# Altium integrated library con-yamaichi.IntLib: 56 symbols
Pins are listed as number, name and electrical type; pins without a type are passive.

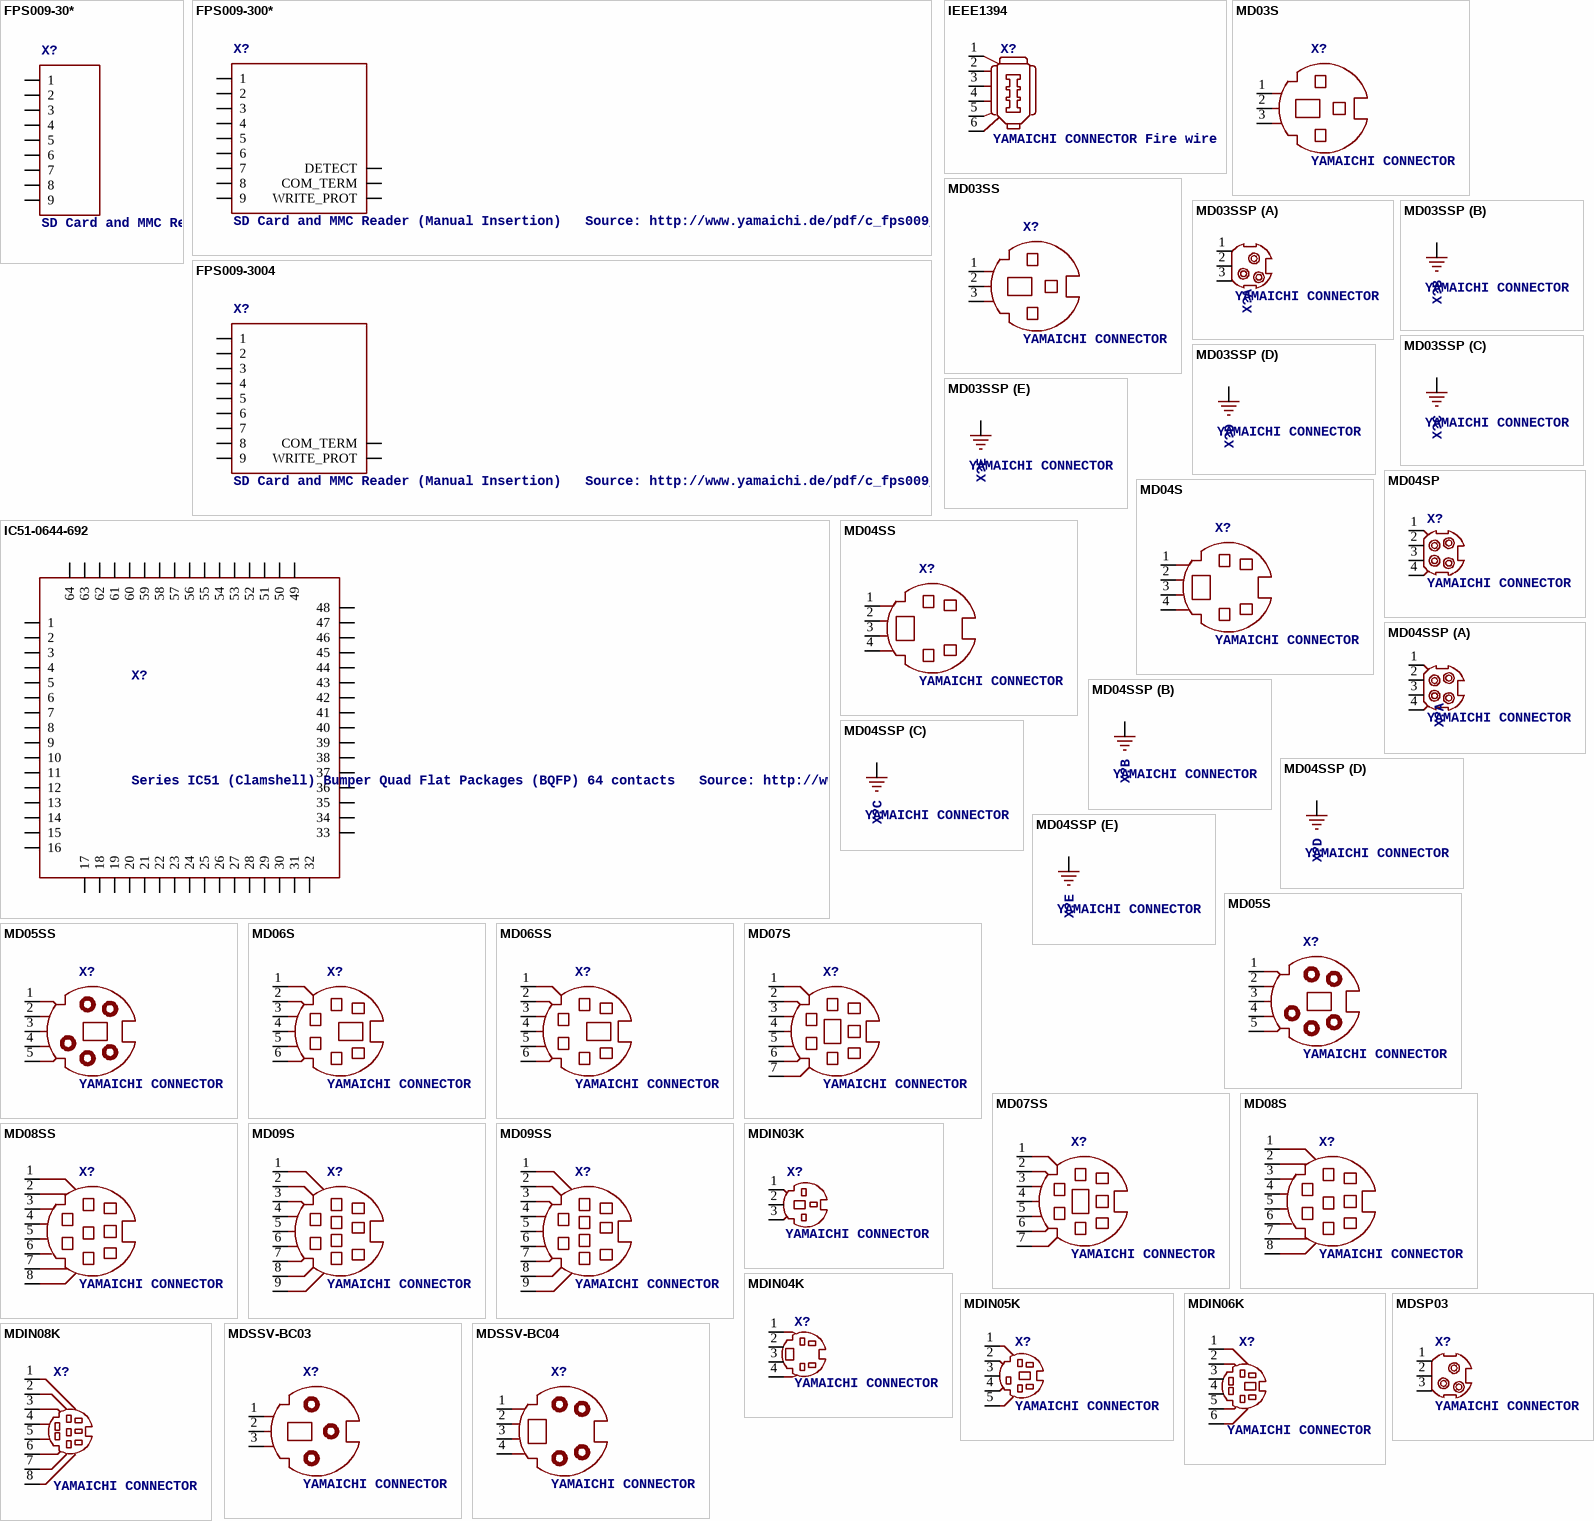
[diagram p0: symbols FPS009-30* to MDSSV-BC04]

## FPS009-30*
designator X?, comment SD Card and MMC Reader (Manual Insertion)   Source: http://www.yamaichi.de/pdf/c_fps009_3000.pdf
MPN: FPS009-3003-BL; OC_FARNELL: 1143953; OC_NEWARK: 91K9876; OC_FARNELL: unknown; OC_NEWARK: unknown
footprint FPS009-3003
pins: 1, 2, 3, 4, 5, 6, 7, 8, 9

## FPS009-300*
designator X?, comment SD Card and MMC Reader (Manual Insertion)   Source: http://www.yamaichi.de/pdf/c_fps009_3000.pdf
MPN: FPS009-3001-BL; OC_FARNELL: unknown; OC_NEWARK: unknown; OC_FARNELL: 1143952; OC_NEWARK: 91K9875
footprint FPS009-3000
pins: 1, 2, 3, 4, 5, 6, 7, 8, 9, COM_TERM, DETECT, WRITE_PROT

## FPS009-3004
designator X?, comment SD Card and MMC Reader (Manual Insertion)   Source: http://www.yamaichi.de/pdf/c_fps009_3000.pdf
OC_FARNELL: unknown; OC_NEWARK: unknown
footprint FPS009-3004
pins: 1, 2, 3, 4, 5, 6, 7, 8, 9, COM_TERM, WRITE_PROT

## IC51-0644-692
designator X?, comment Series IC51 (Clamshell) Bumper Quad Flat Packages (BQFP) 64 contacts   Source: http://www.yamaichi.de/pdfqfp/IC51-0644-692.pdf
OC_FARNELL: unknown; OC_NEWARK: unknown
footprint IC51-0644-692
pins: 1, 2, 3, 4, 5, 6, 7, 8, 9, 10, 11, 12, 13, 14, 15, 16, 17, 18, 19, 20, 21, 22, 23, 24, 25, 26, 27, 28, 29, 30, 31, 32, 33, 34, 35, 36, 37, 38, 39, 40, 41, 42, 43, 44, 45, 46, 47, 48, 49, 50, 51, 52, 53, 54, 55, 56, 57, 58, 59, 60, 61, 62, 63, 64

## IEEE1394
designator X?, comment YAMAICHI CONNECTOR Fire wire
OC_FARNELL: unknown; OC_NEWARK: unknown
footprint IEEE1394
pins: 1, 2, 3, 4, 5, 6

## MD03S
designator X?, comment YAMAICHI CONNECTOR
OC_FARNELL: unknown; OC_NEWARK: unknown
footprint MDIN03S
pins: 1, 2, 3

## MD03SS
designator X?, comment YAMAICHI CONNECTOR
OC_FARNELL: unknown; OC_NEWARK: unknown
footprint MDIN03SS
pins: 1, 2, 3

## MD03SSP
designator X?, comment YAMAICHI CONNECTOR
OC_FARNELL: unknown; OC_NEWARK: unknown
footprint MD03SSP
part A pins: 1, 2, 3
part B pins: SQ3 1
part C pins: SQ2 1
part D pins: S@4 1
part E pins: S@1 1

## MD04S
designator X?, comment YAMAICHI CONNECTOR
OC_FARNELL: unknown; OC_NEWARK: unknown
footprint MDIN04S
pins: 1, 2, 3, 4

## MD04SP
designator X?, comment YAMAICHI CONNECTOR
OC_FARNELL: unknown; OC_NEWARK: unknown
footprint MD04SP
pins: 1, 2, 3, 4

## MD04SS
designator X?, comment YAMAICHI CONNECTOR
OC_FARNELL: unknown; OC_NEWARK: unknown
footprint MDIN04SS
pins: 1, 2, 3, 4

## MD04SSP
designator X?, comment YAMAICHI CONNECTOR
OC_FARNELL: unknown; OC_NEWARK: unknown
footprint MD04SSP
part A pins: 1, 2, 3, 4
part B pins: S@1 1
part C pins: S@4 1
part D pins: SQ2 1
part E pins: SQ3 1

## MD05S
designator X?, comment YAMAICHI CONNECTOR
OC_FARNELL: unknown; OC_NEWARK: unknown
footprint MDIN05S
pins: 1, 2, 3, 4, 5

## MD05SS
designator X?, comment YAMAICHI CONNECTOR
OC_FARNELL: unknown; OC_NEWARK: unknown
footprint MDIN05SS
pins: 1, 2, 3, 4, 5

## MD06S
designator X?, comment YAMAICHI CONNECTOR
OC_FARNELL: unknown; OC_NEWARK: unknown
footprint MDIN06S
pins: 1, 2, 3, 4, 5, 6

## MD06SS
designator X?, comment YAMAICHI CONNECTOR
OC_FARNELL: unknown; OC_NEWARK: unknown
footprint MDIN06SS
pins: 1, 2, 3, 4, 5, 6

## MD07S
designator X?, comment YAMAICHI CONNECTOR
OC_FARNELL: unknown; OC_NEWARK: unknown
footprint MDIN07S
pins: 1, 2, 3, 4, 5, 6, 7

## MD07SS
designator X?, comment YAMAICHI CONNECTOR
OC_FARNELL: unknown; OC_NEWARK: unknown
footprint MDIN07SS
pins: 1, 2, 3, 4, 5, 6, 7

## MD08S
designator X?, comment YAMAICHI CONNECTOR
OC_FARNELL: unknown; OC_NEWARK: unknown
footprint MDIN08S
pins: 1, 2, 3, 4, 5, 6, 7, 8

## MD08SS
designator X?, comment YAMAICHI CONNECTOR
OC_FARNELL: unknown; OC_NEWARK: unknown
footprint MDIN08SS
pins: 1, 2, 3, 4, 5, 6, 7, 8

## MD09S
designator X?, comment YAMAICHI CONNECTOR
OC_FARNELL: unknown; OC_NEWARK: unknown
footprint MDIN09S
pins: 1, 2, 3, 4, 5, 6, 7, 8, 9

## MD09SS
designator X?, comment YAMAICHI CONNECTOR
OC_FARNELL: unknown; OC_NEWARK: unknown
footprint MDIN09SS
pins: 1, 2, 3, 4, 5, 6, 7, 8, 9

## MDIN03K
designator X?, comment YAMAICHI CONNECTOR
OC_FARNELL: unknown; OC_NEWARK: unknown
footprint MDIN03K
pins: 1, 2, 3

## MDIN04K
designator X?, comment YAMAICHI CONNECTOR
OC_FARNELL: unknown; OC_NEWARK: unknown
footprint MDIN04K
pins: 1, 2, 3, 4

## MDIN05K
designator X?, comment YAMAICHI CONNECTOR
OC_FARNELL: unknown; OC_NEWARK: unknown
footprint MDIN05K
pins: 1, 2, 3, 4, 5

## MDIN06K
designator X?, comment YAMAICHI CONNECTOR
OC_FARNELL: unknown; OC_NEWARK: unknown
footprint MDIN06K
pins: 1, 2, 3, 4, 5, 6

## MDIN08K
designator X?, comment YAMAICHI CONNECTOR
OC_FARNELL: unknown; OC_NEWARK: unknown
footprint MDIN08K
pins: 1, 2, 3, 4, 5, 6, 7, 8

## MDSP03
designator X?, comment YAMAICHI CONNECTOR
OC_FARNELL: unknown; OC_NEWARK: unknown
footprint MD03SP
pins: 1, 2, 3

## MDSSV-BC03
designator X?, comment YAMAICHI CONNECTOR
OC_FARNELL: unknown; OC_NEWARK: unknown
footprint SSV-BC03
pins: 1, 2, 3

## MDSSV-BC04
designator X?, comment YAMAICHI CONNECTOR
OC_FARNELL: unknown; OC_NEWARK: unknown
footprint SSV-BC04
pins: 1, 2, 3, 4

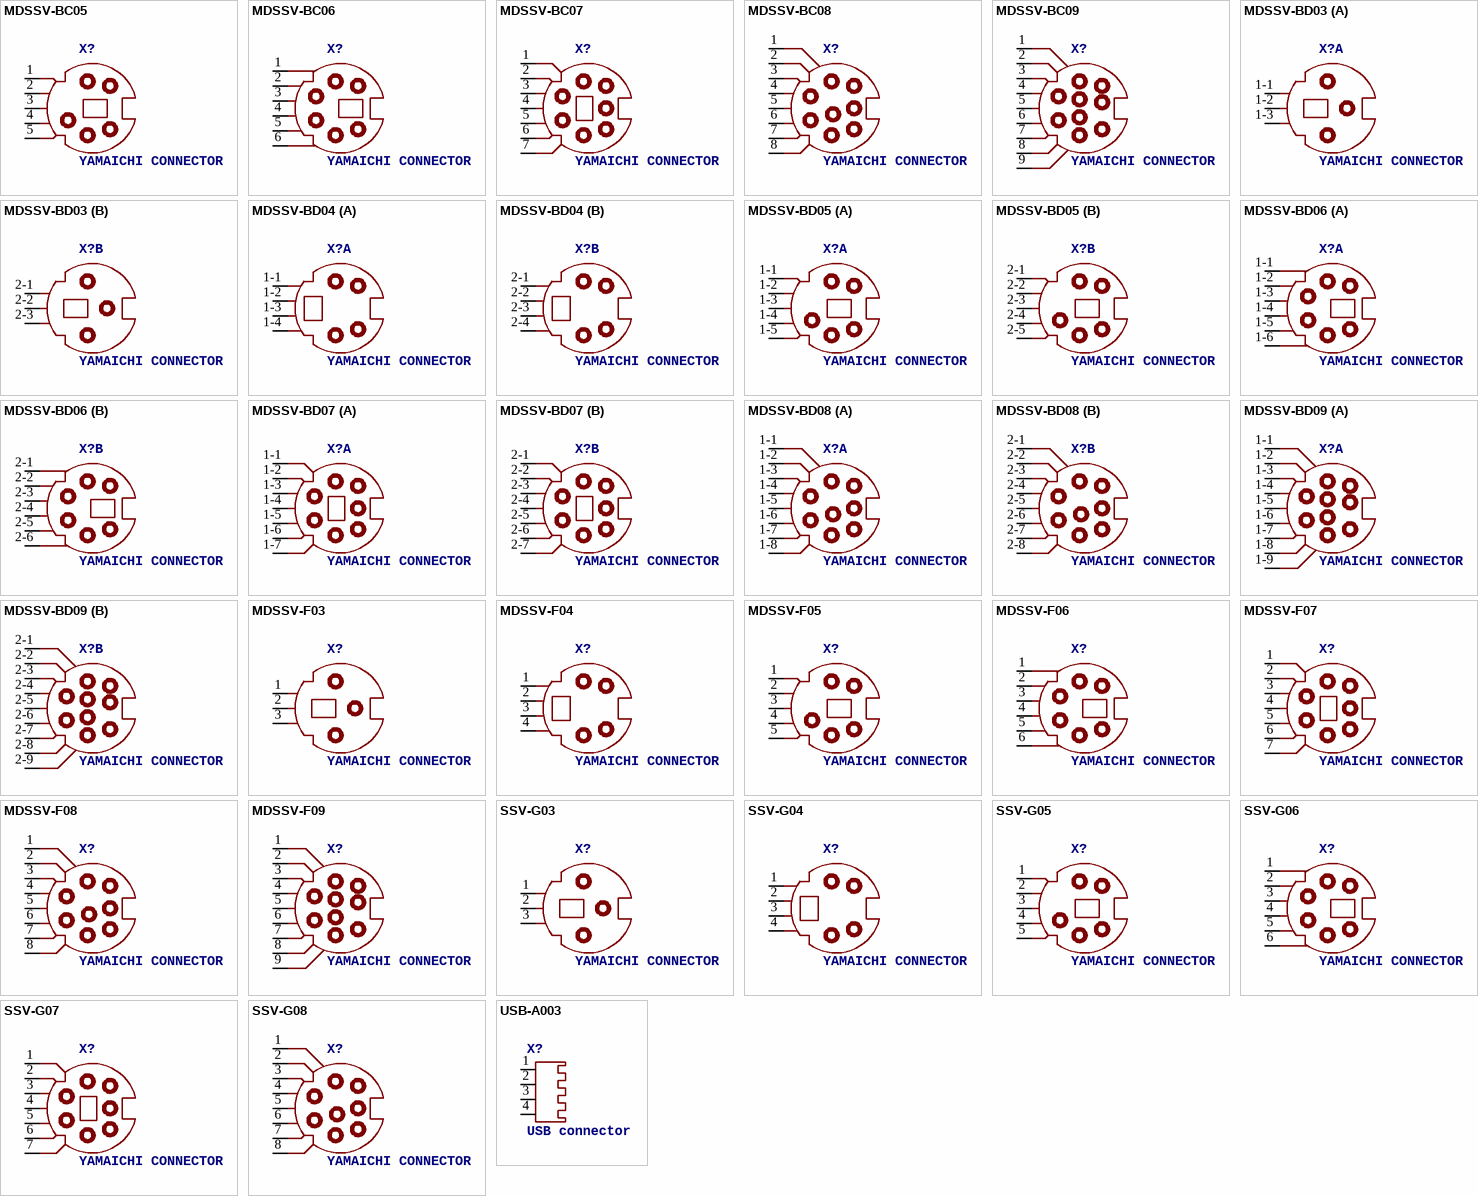
[diagram p1: symbols MDSSV-BC05 to USB-A003]

## MDSSV-BC05
designator X?, comment YAMAICHI CONNECTOR
OC_FARNELL: unknown; OC_NEWARK: unknown
footprint SSV-BC05
pins: 1, 2, 3, 4, 5

## MDSSV-BC06
designator X?, comment YAMAICHI CONNECTOR
OC_FARNELL: unknown; OC_NEWARK: unknown
footprint SSV-BC06
pins: 1, 2, 3, 4, 5, 6

## MDSSV-BC07
designator X?, comment YAMAICHI CONNECTOR
OC_FARNELL: unknown; OC_NEWARK: unknown
footprint SSV-BC07
pins: 1, 2, 3, 4, 5, 6, 7

## MDSSV-BC08
designator X?, comment YAMAICHI CONNECTOR
OC_FARNELL: unknown; OC_NEWARK: unknown
footprint SSV-BC08
pins: 1, 2, 3, 4, 5, 6, 7, 8

## MDSSV-BC09
designator X?, comment YAMAICHI CONNECTOR
OC_FARNELL: unknown; OC_NEWARK: unknown
footprint SSV-BC09
pins: 1, 2, 3, 4, 5, 6, 7, 8, 9

## MDSSV-BD03
designator X?, comment YAMAICHI CONNECTOR
OC_FARNELL: unknown; OC_NEWARK: unknown
footprint SSV-BD03
part A pins: 1-1 1, 1-2 2, 1-3 3
part B pins: 2-1 1, 2-2 2, 2-3 3

## MDSSV-BD04
designator X?, comment YAMAICHI CONNECTOR
OC_FARNELL: unknown; OC_NEWARK: unknown
footprint SSV-BD04
part A pins: 1-1 1, 1-2 2, 1-3 3, 1-4 4
part B pins: 2-1 1, 2-2 2, 2-3 3, 2-4 4

## MDSSV-BD05
designator X?, comment YAMAICHI CONNECTOR
OC_FARNELL: unknown; OC_NEWARK: unknown
footprint SSV-BD05
part A pins: 1-1 1, 1-2 2, 1-3 3, 1-4 4, 1-5 5
part B pins: 2-1 1, 2-2 2, 2-3 3, 2-4 4, 2-5 5

## MDSSV-BD06
designator X?, comment YAMAICHI CONNECTOR
OC_FARNELL: unknown; OC_NEWARK: unknown
footprint SSV-BD06
part A pins: 1-1 1, 1-2 2, 1-3 3, 1-4 4, 1-5 5, 1-6 6
part B pins: 2-1 1, 2-2 2, 2-3 3, 2-4 4, 2-5 5, 2-6 6

## MDSSV-BD07
designator X?, comment YAMAICHI CONNECTOR
OC_FARNELL: unknown; OC_NEWARK: unknown
footprint SSV-BD07
part A pins: 1-1 1, 1-2 2, 1-3 3, 1-4 4, 1-5 5, 1-6 6, 1-7 7
part B pins: 2-1 1, 2-2 2, 2-3 3, 2-4 4, 2-5 5, 2-6 6, 2-7 7

## MDSSV-BD08
designator X?, comment YAMAICHI CONNECTOR
OC_FARNELL: unknown; OC_NEWARK: unknown
footprint SSV-BD08
part A pins: 1-1 1, 1-2 2, 1-3 3, 1-4 4, 1-5 5, 1-6 6, 1-7 7, 1-8 8
part B pins: 2-1 1, 2-2 2, 2-3 3, 2-4 4, 2-5 5, 2-6 6, 2-7 7, 2-8 8

## MDSSV-BD09
designator X?, comment YAMAICHI CONNECTOR
OC_FARNELL: unknown; OC_NEWARK: unknown
footprint SSV-BD09
part A pins: 1-1 1, 1-2 2, 1-3 3, 1-4 4, 1-5 5, 1-6 6, 1-7 7, 1-8 8, 1-9 9
part B pins: 2-1 1, 2-2 2, 2-3 3, 2-4 4, 2-5 5, 2-6 6, 2-7 7, 2-8 8, 2-9 9

## MDSSV-F03
designator X?, comment YAMAICHI CONNECTOR
OC_FARNELL: unknown; OC_NEWARK: unknown
footprint SSV-BC03
pins: 1, 2, 3

## MDSSV-F04
designator X?, comment YAMAICHI CONNECTOR
OC_FARNELL: unknown; OC_NEWARK: unknown
footprint SSV-BC04
pins: 1, 2, 3, 4

## MDSSV-F05
designator X?, comment YAMAICHI CONNECTOR
OC_FARNELL: unknown; OC_NEWARK: unknown
footprint SSV-BC05
pins: 1, 2, 3, 4, 5

## MDSSV-F06
designator X?, comment YAMAICHI CONNECTOR
OC_FARNELL: unknown; OC_NEWARK: unknown
footprint SSV-BC06
pins: 1, 2, 3, 4, 5, 6

## MDSSV-F07
designator X?, comment YAMAICHI CONNECTOR
OC_FARNELL: unknown; OC_NEWARK: unknown
footprint SSV-BC07
pins: 1, 2, 3, 4, 5, 6, 7

## MDSSV-F08
designator X?, comment YAMAICHI CONNECTOR
OC_FARNELL: unknown; OC_NEWARK: unknown
footprint SSV-BC08
pins: 1, 2, 3, 4, 5, 6, 7, 8

## MDSSV-F09
designator X?, comment YAMAICHI CONNECTOR
OC_FARNELL: unknown; OC_NEWARK: unknown
footprint SSV-BC09
pins: 1, 2, 3, 4, 5, 6, 7, 8, 9

## SSV-G03
designator X?, comment YAMAICHI CONNECTOR
OC_FARNELL: unknown; OC_NEWARK: unknown
footprint SSV-BC03
pins: 1, 2, 3

## SSV-G04
designator X?, comment YAMAICHI CONNECTOR
OC_FARNELL: unknown; OC_NEWARK: unknown
footprint SSV-BC04
pins: 1, 2, 3, 4

## SSV-G05
designator X?, comment YAMAICHI CONNECTOR
OC_FARNELL: unknown; OC_NEWARK: unknown
footprint SSV-BC05
pins: 1, 2, 3, 4, 5

## SSV-G06
designator X?, comment YAMAICHI CONNECTOR
OC_FARNELL: unknown; OC_NEWARK: unknown
footprint SSV-BC06
pins: 1, 2, 3, 4, 5, 6

## SSV-G07
designator X?, comment YAMAICHI CONNECTOR
OC_FARNELL: unknown; OC_NEWARK: unknown
footprint SSV-BC07
pins: 1, 2, 3, 4, 5, 6, 7

## SSV-G08
designator X?, comment YAMAICHI CONNECTOR
OC_FARNELL: unknown; OC_NEWARK: unknown
footprint SSV-BC08
pins: 1, 2, 3, 4, 5, 6, 7, 8

## USB-A003
designator X?, comment USB connector
OC_FARNELL: unknown; OC_NEWARK: unknown
footprint USB-A003
pins: 1, 2, 3, 4